# Altium footprint library ETL_RB.PcbLib: 32 footprints (part 2 of 2)
Each footprint in its own frame and in the unit in brackets; x right, y up, seen from the top. Pads: shape width x height; smd on the part's side, far side on the other; paste and mask are expansions set on the pad; w line width, h text height; cw(c..) or ccw(c..) is an arc to the next point about the centre after c.
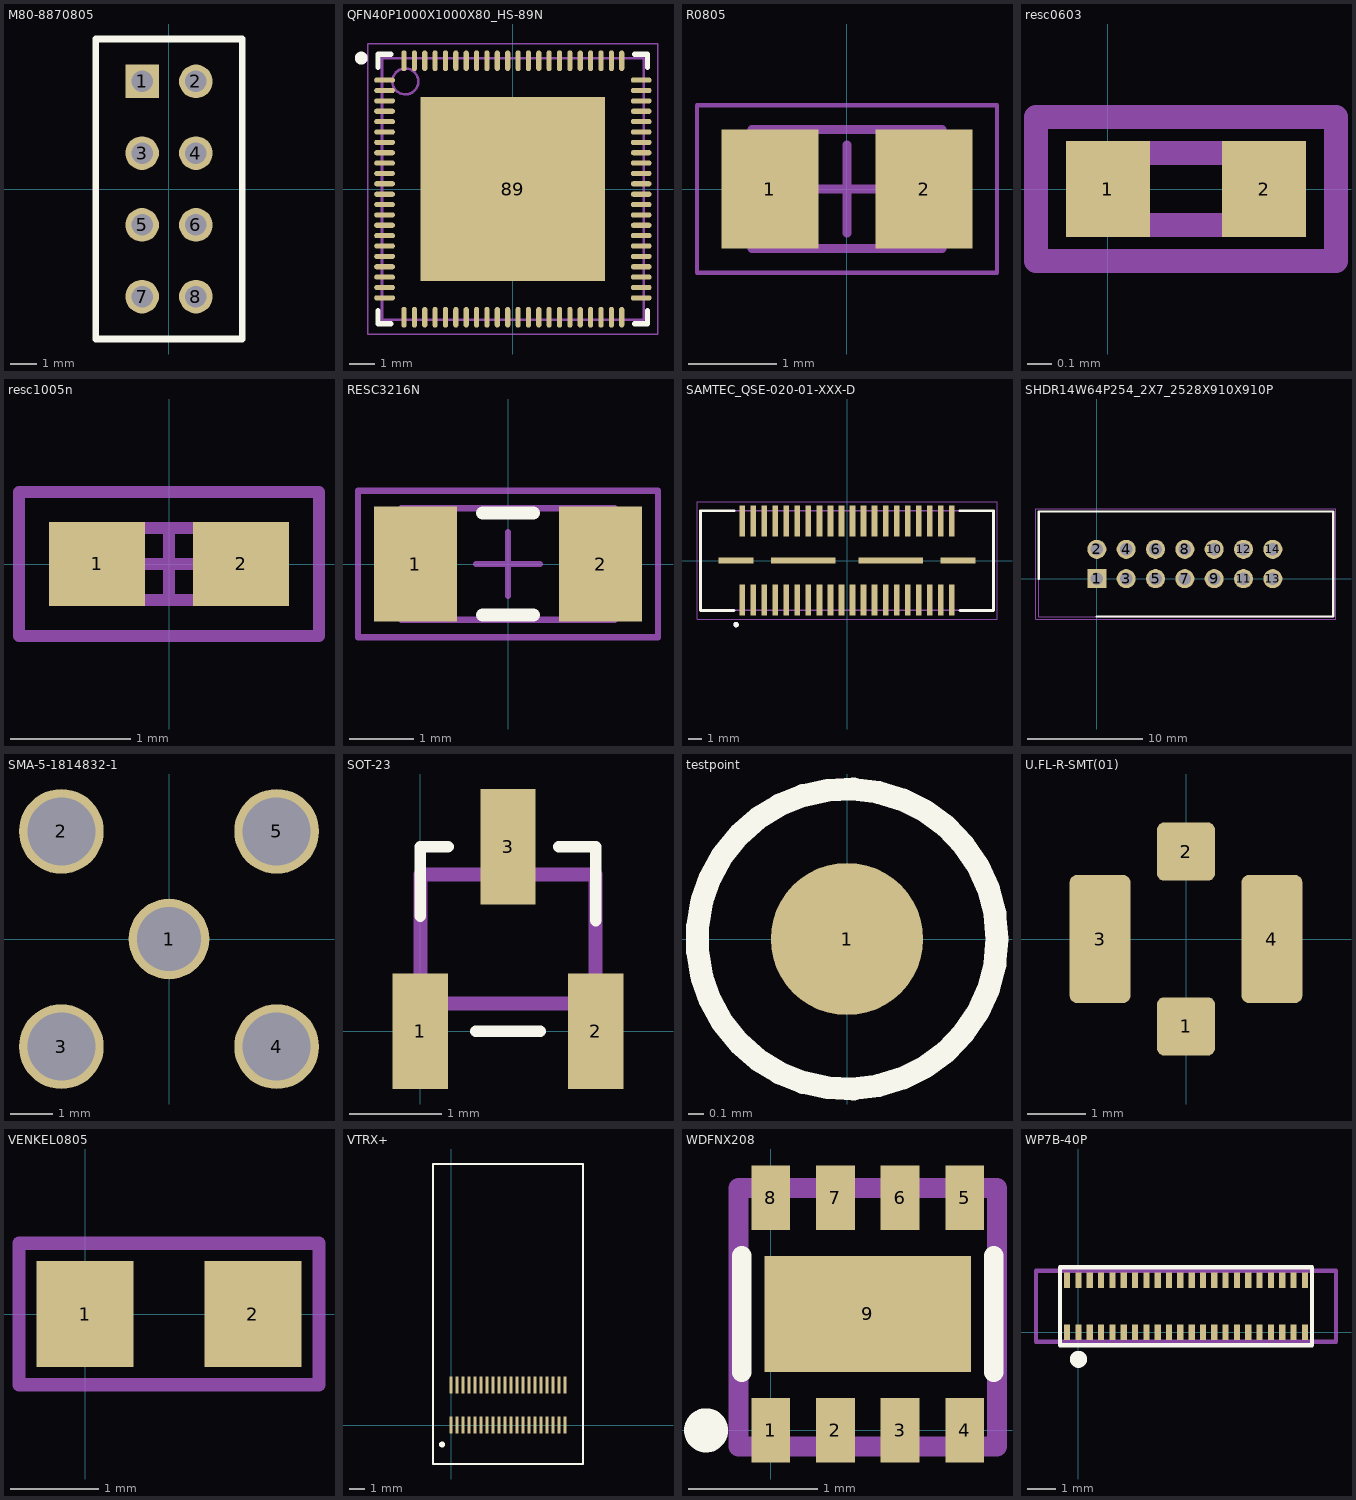
[diagram p1: the footprints below, top view; thin cyan lines are the x and y axes]

## M80-8870805 [mm]
pads (8):
  rect 1.25x1.25 hole 0.8: 1(-1,4)
  round 1.25 hole 0.8: 2(1,4) 3(-1,1.333) 4(1,1.333) 5(-1,-1.333) 6(1,-1.333) 7(-1,-4) 8(1,-4)
Top Overlay:
  lines w0.254: -2.725,-5.575 2.725,-5.575 2.725,5.575 -2.725,5.575 -2.725,-5.575

## QFN40P1000X1000X80_HS-89N [mm] "QFN, 88-Leads, Body 10.00x10.00mm, Pitch 0.40mm, Thermal Pad 8.70x8.70mm, IPC Medium Density"
height 0.8
pads (89):
  oval 0.8x0.2 smd: 1(-4.95,4.2) 2(-4.95,3.8) 3(-4.95,3.4) 4(-4.95,3) 5(-4.95,2.6) 6(-4.95,2.2) 7(-4.95,1.8) 8(-4.95,1.4) 9(-4.95,1) 10(-4.95,0.6) 11(-4.95,0.2) 12(-4.95,-0.2) 13(-4.95,-0.6) 14(-4.95,-1) 15(-4.95,-1.4) 16(-4.95,-1.8) 17(-4.95,-2.2) 18(-4.95,-2.6) 19(-4.95,-3) 20(-4.95,-3.4) 21(-4.95,-3.8) 22(-4.95,-4.2) 45(4.95,-4.2) 46(4.95,-3.8) 47(4.95,-3.4) 48(4.95,-3) 49(4.95,-2.6) 50(4.95,-2.2) 51(4.95,-1.8) 52(4.95,-1.4) 53(4.95,-1) 54(4.95,-0.6) 55(4.95,-0.2) 56(4.95,0.2) 57(4.95,0.6) 58(4.95,1) 59(4.95,1.4) 60(4.95,1.8) 61(4.95,2.2) 62(4.95,2.6) 63(4.95,3) 64(4.95,3.4) 65(4.95,3.8) 66(4.95,4.2)
  oval 0.2x0.8 smd: 23(-4.2,-4.95) 24(-3.8,-4.95) 25(-3.4,-4.95) 26(-3,-4.95) 27(-2.6,-4.95) 28(-2.2,-4.95) 29(-1.8,-4.95) 30(-1.4,-4.95) 31(-1,-4.95) 32(-0.6,-4.95) 33(-0.2,-4.95) 34(0.2,-4.95) 35(0.6,-4.95) 36(1,-4.95) 37(1.4,-4.95) 38(1.8,-4.95) 39(2.2,-4.95) 40(2.6,-4.95) 41(3,-4.95) 42(3.4,-4.95) 43(3.8,-4.95) 44(4.2,-4.95) 67(4.2,4.95) 68(3.8,4.95) 69(3.4,4.95) 70(3,4.95) 71(2.6,4.95) 72(2.2,4.95) 73(1.8,4.95) 74(1.4,4.95) 75(1,4.95) 76(0.6,4.95) 77(0.2,4.95) 78(-0.2,4.95) 79(-0.6,4.95) 80(-1,4.95) 81(-1.4,4.95) 82(-1.8,4.95) 83(-2.2,4.95) 84(-2.6,4.95) 85(-3,4.95) 86(-3.4,4.95) 87(-3.8,4.95) 88(-4.2,4.95)
  rect 7.112x7.112 smd paste-1: 89(0,0)
Top Overlay:
  circle w0.25: c-5.85,5.05 r0.125
  lines w0.2: -5.2,-4.7 -5.2,-5.2 -4.7,-5.2 ; -5.2,4.7 -5.2,5.2 -4.7,5.2 ; 4.7,-5.2 5.2,-5.2 5.2,-4.7 ; 4.7,5.2 5.2,5.2 5.2,4.7
Mechanical 13:
  circle w0.1: c-4.15,4.15 r0.5
  lines w0.1: -5.05,-5.05 -5.05,5.05 5.05,5.05 5.05,-5.05 -5.05,-5.05
Mechanical 15:
  lines w0.05: -5.6,-5.6 -5.6,5.6 5.6,5.6 5.6,-5.6 -5.6,-5.6
  lines w0.1: -0.5,0 0.5,0 ; 0,-0.5 0,0.5
3D body "QFN40P1000X1000X80_HS-89N.step": height 0.8, standoff 0, extent -5.1,-5.1 5.1,5.1

## R0805 [mm] "Chip Resistor, 2-Leads, Body 2.00x1.25mm, IPC Medium Density"
height 0.6
pads (2):
  rect 1.1x1.35 smd: 1(-0.875,0) 2(0.875,0)
Mechanical 13:
  lines w0.1: -1.075,-0.675 1.075,-0.675 1.075,0.675 -1.075,0.675 -1.075,-0.675
Mechanical 15:
  lines w0.05: -1.7,-0.95 1.7,-0.95 1.7,0.95 -1.7,0.95 -1.7,-0.95
  lines w0.1: -0.5,0 0.5,0 ; 0,-0.5 0,0.5
3D body: height 0.6, standoff 0, extent 0.675,-0.675 1.075,0.675
3D body: height 0.6, standoff 0, extent -1.075,-0.675 -0.675,0.675
3D body: height 0.6, standoff 0, extent -0.675,-0.675 0.675,0.675

## resc0603 [mm]
pads (2):
  rect 0.35x0.4 smd: 1(0,0) 2(0.65,0)
Mechanical 13:
  lines w0.102: 0,-0.15 0,0.15 0.65,0.15 0.65,-0.15 0,-0.15
Mechanical 15:
  lines w0.102: -0.3,-0.3 0.95,-0.3 0.95,0.3 -0.3,0.3 -0.3,-0.3
3D body: height 0.5, standoff 0, extent 0.001,-0.149 0.649,0.149

## resc1005n [mm] "Chip Resistor, Body 1.1x0.5mm, IPC Medium Density"
height 0.4
pads (2):
  rect 0.8x0.7 smd: 1(-0.6,0) 2(0.6,0)
Mechanical 13:
  lines w0.1: -0.55,-0.3 0.55,-0.3 0.55,0.3 -0.55,0.3 -0.55,-0.3
Mechanical 15:
  lines w0.1: -0.3,0 0.3,0 ; 0,-0.3 0,0.3 ; -1.25,-0.6 1.25,-0.6 1.25,0.6 -1.25,0.6 -1.25,-0.6
3D body: height 0.4, standoff 0, extent -0.55,-0.3 0.55,0.3

## RESC3216N [mm] "Chip Resistor, Body 3.2x1.6mm, IPC Medium Density"
height 0.71
pads (2):
  rect 1.3x1.8 smd: 1(-1.45,0) 2(1.45,0)
Top Overlay:
  lines w0.2: -0.4,-0.8 0.4,-0.8 ; -0.4,0.8 0.4,0.8
Mechanical 13:
  lines w0.1: -1.675,-0.875 -1.675,0.875 1.675,0.875 1.675,-0.875 -1.675,-0.875
Mechanical 15:
  lines w0.1: -0.5,0 0.5,0 ; 0,-0.5 0,0.5 ; -2.35,-1.15 -2.35,1.15 2.35,1.15 2.35,-1.15 -2.35,-1.15
3D body: height 0.55, standoff 0, extent -1.675,-0.875 1.675,0.875

## SAMTEC_QSE-020-01-XXX-D [mm]
pads (44):
  rect 0.41x2.27 smd: 01(-7.6,-2.865) 02(-7.6,2.865) 03(-6.8,-2.865) 04(-6.8,2.865) 05(-6,-2.865) 06(-6,2.865) 07(-5.2,-2.865) 08(-5.2,2.865) 09(-4.4,-2.865) 10(-4.4,2.865) 11(-3.6,-2.865) 12(-3.6,2.865) 13(-2.8,-2.865) 14(-2.8,2.865) 15(-2,-2.865) 16(-2,2.865) 17(-1.2,-2.865) 18(-1.2,2.865) 19(-0.4,-2.865) 20(-0.4,2.865) 21(0.4,-2.865) 22(0.4,2.865) 23(1.2,-2.865) 24(1.2,2.865) 25(2,-2.865) 26(2,2.865) 27(2.8,-2.865) 28(2.8,2.865) 29(3.6,-2.865) 30(3.6,2.865) 31(4.4,-2.865) 32(4.4,2.865) 33(5.2,-2.865) 34(5.2,2.865) 35(6,-2.865) 36(6,2.865) 37(6.8,-2.865) 38(6.8,2.865) 39(7.6,-2.865) 40(7.6,2.865)
  rect 2.54x0.43 smd: G1(-8.065,0) G4(8.065,0)
  rect 4.7x0.43 smd: G2(-3.175,0) G3(3.175,0)
Top Overlay:
  circle w0.2: c-8.05,-4.65 r0.1
  lines w0.2: -8.2,-3.62 -10.635,-3.62 -10.635,3.62 -8.2,3.62 ; 8.2,-3.62 10.635,-3.62 10.635,3.62 8.2,3.62
Mechanical 13:
  circle w0.2: c-8.05,-4.65 r0.1
  lines w0.1: -10.635,-3.62 -10.635,3.62 10.635,3.62 10.635,-3.62 -10.635,-3.62
Mechanical 15:
  lines w0.05: -10.885,-4.25 -10.885,4.25 10.885,4.25 10.885,-4.25 -10.885,-4.25
3D body "QSE-020-01-F-D.stp": height 3.05, standoff -0.2, extent -10.643,-3.746 10.643,3.746

## SHDR14W64P254_2X7_2528X910X910P [mm]
pads (14):
  rect 1.65x1.65 hole 1.1: 1(0,0)
  round 1.65 hole 1.1: 2(0,2.54) 3(2.54,0) 4(2.54,2.54) 5(5.08,0) 6(5.08,2.54) 7(7.62,0) 8(7.62,2.54) 9(10.16,0) 10(10.16,2.54) 11(12.7,0) 12(12.7,2.54) 13(15.24,0) 14(15.24,2.54)
Top Overlay:
  lines w0.2: -5.02,0 -5.02,5.82 20.46,5.82 20.46,-3.28 0,-3.28
Mechanical 13:
  lines w0.1: -5.02,-3.28 -5.02,5.82 20.46,5.82 20.46,-3.28 -5.02,-3.28
Mechanical 15:
  lines w0.05: -5.27,-3.53 -5.27,6.07 20.71,6.07 20.71,-3.53 -5.27,-3.53
3D body "SBH11-PBPC-D07-ST-BK.stp": height 9.1, standoff -3, extent -5.02,-3.28 20.26,5.82

## SMA-5-1814832-1 [mm] "CONN SMA JACK STR 50 OHM PCB"
pads (5):
  round 1.9 hole 1.5: 1(0,0)
  round 2 hole 1.6: 2(-2.54,2.54) 3(-2.54,-2.54) 4(2.54,-2.54) 5(2.54,2.54)

## SOT-23 [mm]
pads (3):
  rect 0.6x1.25 smd: 1(0,0) 2(1.9,0) 3(0.95,2)
Top Overlay:
  lines w0.127: 0,1.25 0,2 0.3,2 ; 0.6,0 1.3,0 ; 1.5,2 1.9,2 1.9,1.2
Mechanical 5:
  lines w0.152: 0,0.3 1.9,0.3 1.9,1.7 0,1.7 0,0.3
3D body: height 1.2, standoff 0, extent 0.001,0.301 1.899,1.699

## testpoint [mil]
height 19.68
pads (1):
  round 40 smd paste-39.37: 1(0,0)
Top Overlay:
  circle w6: c0,0 r39.37

## U.FL-R-SMT(01) [mm]
pads (4):
  rrect25% 1x1 smd: 1(0,-1.5) 2(0,1.5)
  rrect25% 1.05x2.2 smd: 3(-1.475,0) 4(1.475,0)
3D body "U.FL-R-SMT-1.stp": height 1.35, standoff 0.1, extent -1.499,-1.535 1.501,1.565

## VENKEL0805 [mm]
height 1.7
pads (2):
  rect 1.1x1.2 smd: 1(0,0) 2(1.9,0)
Mechanical 15:
  lines w0.152: -0.75,-0.8 -0.75,0.8 2.65,0.8 2.65,-0.8 -0.75,-0.8
3D body: height 1.7, standoff 0, extent -0.749,-0.799 2.649,0.799

## VTRX+ [mm]
pads (40):
  rect 0.2x1.12 smd: 1(0,0) 2(0,2.66) 3(0.4,0) 4(0.4,2.66) 5(0.8,0) 6(0.8,2.66) 7(1.2,0) 8(1.2,2.66) 9(1.6,0) 10(1.6,2.66) 11(2,0) 12(2,2.66) 13(2.4,0) 14(2.4,2.66) 15(2.8,0) 16(2.8,2.66) 17(3.2,0) 18(3.2,2.66) 19(3.6,0) 20(3.6,2.66) 21(4,0) 22(4,2.66) 23(4.4,0) 24(4.4,2.66) 25(4.8,0) 26(4.8,2.66) 27(5.2,0) 28(5.2,2.66) 29(5.6,0) 30(5.6,2.66) 31(6,0) 32(6,2.66) 33(6.4,0) 34(6.4,2.66) 35(6.8,0) 36(6.8,2.66) 37(7.2,0) 38(7.2,2.66) 39(7.6,0) 40(7.6,2.66)
Top Overlay:
  circle w0.2: c-0.6,-1.3 r0.1
  lines w0.15: -1.2,-2.6 -1.2,17.4 8.8,17.4 8.8,-2.6 -1.2,-2.6
Mechanical 13:
  lines w0.152: -1.2,-2.6 -1.2,17.4 8.8,17.4 8.8,-2.6 -1.2,-2.6
3D body "PCBM_CERN_VTRx+ V10.stp": height 2.51, standoff 0.5, extent -1.19,-2.603 8.81,19.397

## WDFNX208 [mm]
height 0.8
pads (9):
  rect 0.3x0.5 smd: 1(0,0) 2(0.5,0) 3(1,0) 4(1.5,0) 5(1.5,1.8) 6(1,1.8) 7(0.5,1.8) 8(0,1.8)
  rect 1.6x0.9 smd: 9(0.75,0.9)
Top Overlay:
  circle w0.2: c-0.5,0 r0.071
  lines w0.15: -0.225,0.45 -0.225,1.35 ; 1.725,0.45 1.725,1.35
Mechanical 13:
  lines w0.152: -0.25,-0.125 -0.25,1.875 1.75,1.875 1.75,-0.125 -0.25,-0.125
3D body: height 0.8, standoff 0, extent -0.249,-0.124 1.749,1.874

## WP7B-40P [mm]
height 0.5
pads (44):
  rect 0.22x0.55 smd: 1(0,0) 2(0.4,0) 3(0.8,0) 4(1.2,0) 5(1.6,0) 6(2,0) 7(2.4,0) 8(2.8,0) 9(3.2,0) 10(3.6,0) 11(4,0) 12(4.4,0) 13(4.8,0) 14(5.2,0) 15(5.6,0) 16(6,0) 17(6.4,0) 18(6.8,0) 19(7.2,0) 20(7.6,0) 21(7.6,1.85) 22(7.2,1.85) 23(6.8,1.85) 24(6.4,1.85) 25(6,1.85) 26(5.6,1.85) 27(5.2,1.85) 28(4.8,1.85) 29(4.4,1.85) 30(4,1.85) 31(3.6,1.85) 32(3.2,1.85) 33(2.8,1.85) 34(2.4,1.85) 35(2,1.85) 36(1.6,1.85) 37(1.2,1.85) 38(0.8,1.85) 39(0.4,1.85) 40(0,1.85) 41(-0.4,0) 42(8,0) 43(8,1.85) 44(-0.4,1.85)
Top Overlay:
  circle w0.5: c0,-0.95 r0.05
  lines w0.15: -0.65,-0.45 8.25,-0.45 8.25,2.3 -0.65,2.3 -0.65,-0.45
Mechanical 13:
  lines w0.152: -1.5,-0.325 9.1,-0.325 9.1,2.175 -1.5,2.175 -1.5,-0.325
3D body: height 0.5, standoff 0, extent -1.499,-0.324 9.099,2.174